# Altium schematic symbol library XBee.SchLib: 1 symbol
Pins are listed as number, name and electrical type; pins without a type are passive.

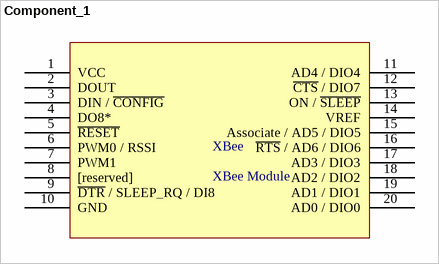
[diagram p0: symbol Component_1]

## Component_1
designator XBee, comment XBee Module
XBee OEM RF Modules
footprint XBee (XBee OEM RF Module)
pins: 1 VCC, 2 DOUT, 3 DIN / ~{CONFIG}, 4 DO8*, 5 ~{RESET}, 6 PWM0 / RSSI, 7 PWM1, 8 [reserved], 9 ~{DTR} / SLEEP_RQ / DI8, 10 GND, 11 AD4 / DIO4, 12 ~{CTS} / DIO7, 13 ON / ~{SLEEP}, 14 VREF, 15 Associate / AD5 / DIO5, 16 ~{RTS} / AD6 / DIO6, 17 AD3 / DIO3, 18 AD2 / DIO2, 19 AD1 / DIO1, 20 AD0 / DIO0